# Altium footprint library Power_Embedded_Board_Library.PcbLib: 42 footprints (part 3 of 3)
Each footprint in its own frame and in the unit in brackets; x right, y up, seen from the top. Pads: shape width x height; smd on the part's side, far side on the other; paste and mask are expansions set on the pad; w line width, h text height; cw(c..) or ccw(c..) is an arc to the next point about the centre after c.
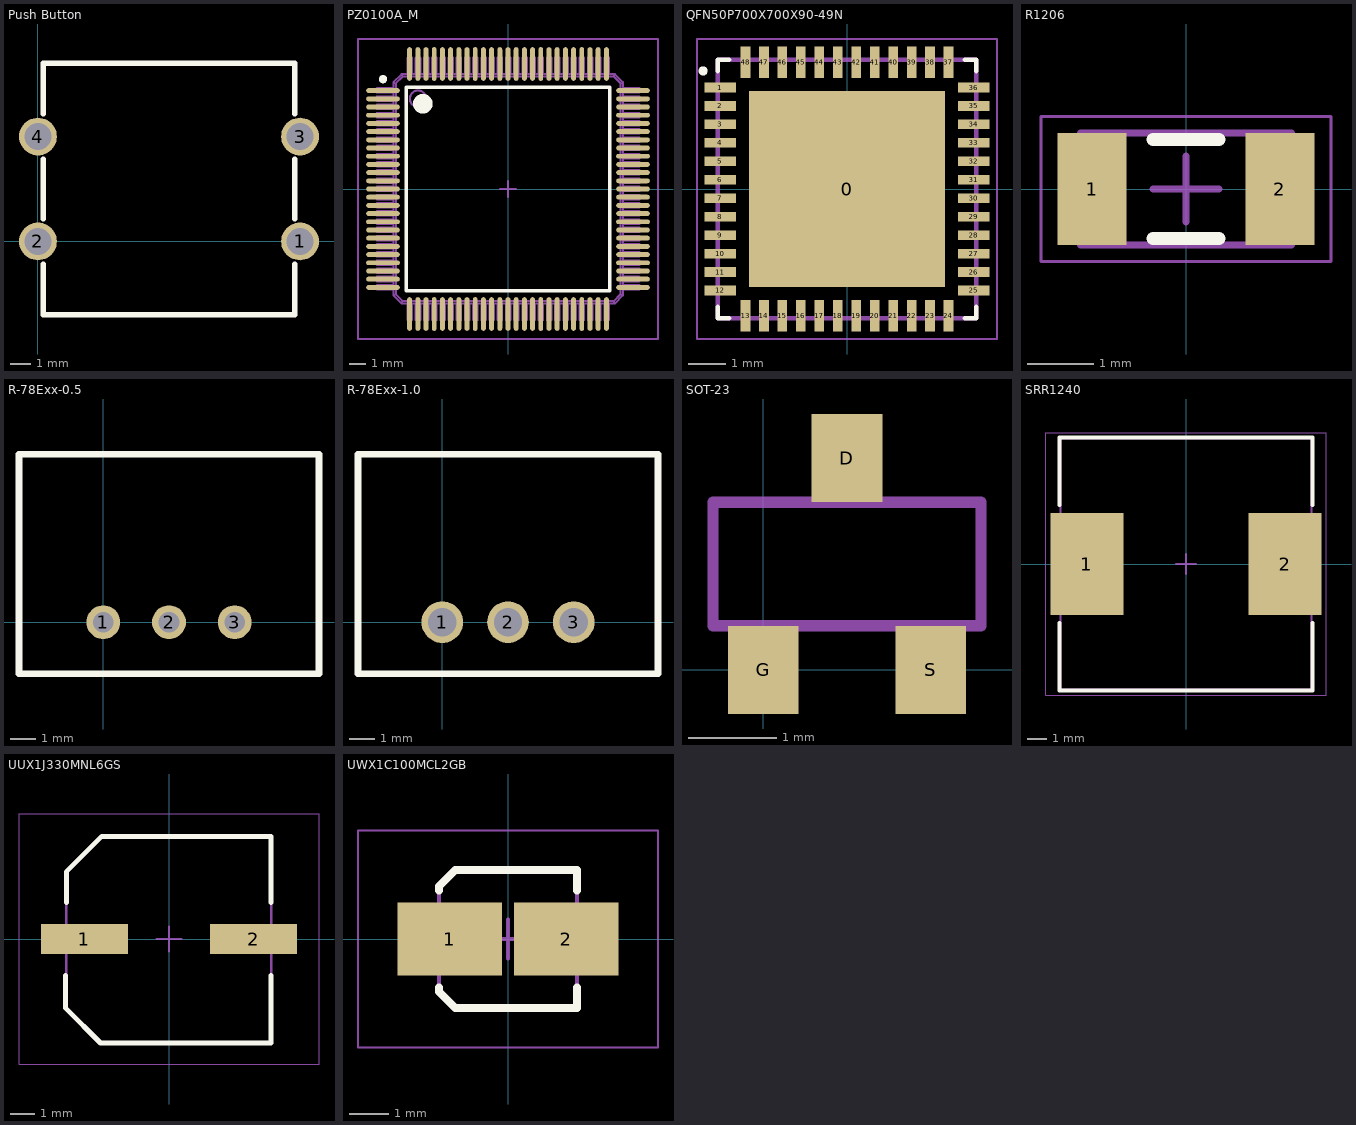
[diagram p2: the footprints below, top view; thin cyan lines are the x and y axes]

## Push Button [mm] "Tactile Switch SPST-NO Top Actuated Through Hole"
height 7.5
pads (4):
  round 1.808 hole 1.3: 1(12.5,0) 2(0,0) 3(12.5,5) 4(0,5)
Top Overlay:
  lines w0.254: 0.25,-1.075 0.25,-3.5 12.25,-3.5 12.25,-1.075 ; 0.25,1.075 0.25,3.925 ; 0.25,6.075 0.25,8.5 12.25,8.5 12.25,6.075 ; 12.25,1.075 12.25,3.925

## PZ0100A_M [mm] "SimpleLink Ultra-Low-Power 32-Bit ARM Cortex-M4F MCU With Precision ADC, 256KB Flash and 64KB RAM"
height 1.6
pads (100):
  oval 2.05x0.3 smd paste+0 mask+0.051: 1(-7.625,6) 2(-7.625,5.5) 3(-7.625,5) 4(-7.625,4.5) 5(-7.625,4) 6(-7.625,3.5) 7(-7.625,3) 8(-7.625,2.5) 9(-7.625,2) 10(-7.625,1.5) 11(-7.625,1) 12(-7.625,0.5) 13(-7.625,0) 14(-7.625,-0.5) 15(-7.625,-1) 16(-7.625,-1.5) 17(-7.625,-2) 18(-7.625,-2.5) 19(-7.625,-3) 20(-7.625,-3.5) 21(-7.625,-4) 22(-7.625,-4.5) 23(-7.625,-5) 24(-7.625,-5.5) 25(-7.625,-6) 51(7.625,-6) 52(7.625,-5.5) 53(7.625,-5) 54(7.625,-4.5) 55(7.625,-4) 56(7.625,-3.5) 57(7.625,-3) 58(7.625,-2.5) 59(7.625,-2) 60(7.625,-1.5) 61(7.625,-1) 62(7.625,-0.5) 63(7.625,0) 64(7.625,0.5) 65(7.625,1) 66(7.625,1.5) 67(7.625,2) 68(7.625,2.5) 69(7.625,3) 70(7.625,3.5) 71(7.625,4) 72(7.625,4.5) 73(7.625,5) 74(7.625,5.5) 75(7.625,6)
  oval 0.3x2.05 smd paste+0 mask+0.051: 26(-6,-7.625) 27(-5.5,-7.625) 28(-5,-7.625) 29(-4.5,-7.625) 30(-4,-7.625) 31(-3.5,-7.625) 32(-3,-7.625) 33(-2.5,-7.625) 34(-2,-7.625) 35(-1.5,-7.625) 36(-1,-7.625) 37(-0.5,-7.625) 38(0,-7.625) 39(0.5,-7.625) 40(1,-7.625) 41(1.5,-7.625) 42(2,-7.625) 43(2.5,-7.625) 44(3,-7.625) 45(3.5,-7.625) 46(4,-7.625) 47(4.5,-7.625) 48(5,-7.625) 49(5.5,-7.625) 50(6,-7.625) 76(6,7.625) 77(5.5,7.625) 78(5,7.625) 79(4.5,7.625) 80(4,7.625) 81(3.5,7.625) 82(3,7.625) 83(2.5,7.625) 84(2,7.625) 85(1.5,7.625) 86(1,7.625) 87(0.5,7.625) 88(0,7.625) 89(-0.5,7.625) 90(-1,7.625) 91(-1.5,7.625) 92(-2,7.625) 93(-2.5,7.625) 94(-3,7.625) 95(-3.5,7.625) 96(-4,7.625) 97(-4.5,7.625) 98(-5,7.625) 99(-5.5,7.625) 100(-6,7.625)
Top Overlay:
  circle w0.6: c-5.2,5.2 r0.3
  circle w0.25: c-7.625,6.7 r0.125
  lines w0.2: -6.2,-6.2 6.2,-6.2 6.2,6.2 -6.2,6.2 -6.2,-6.2
Mechanical 13:
  drawing of 1326 lines, arcs and shapes, not listed
  text ".Designator" at -1.8,-0.4 h1.27
Mechanical 15:
  lines w0.1: -0.5,0 0.5,0 ; 0,-0.5 0,0.5 ; -9.15,-9.15 9.15,-9.15 9.15,9.15 -9.15,9.15 -9.15,-9.15
3D body "PZ0100A.stp": height 1.5, standoff 0, extent -8.001,-8.001 8.021,8.021

## QFN50P700X700X90-49N [mm]
pads (49):
  rect 5.3x5.3 smd: 0(0,0)
  rect 0.86x0.26 smd: 1(-3.435,2.75) 2(-3.435,2.25) 3(-3.435,1.75) 4(-3.435,1.25) 5(-3.435,0.75) 6(-3.435,0.25) 7(-3.435,-0.25) 8(-3.435,-0.75) 9(-3.435,-1.25) 10(-3.435,-1.75) 11(-3.435,-2.25) 12(-3.435,-2.75) 25(3.435,-2.75) 26(3.435,-2.25) 27(3.435,-1.75) 28(3.435,-1.25) 29(3.435,-0.75) 30(3.435,-0.25) 31(3.435,0.25) 32(3.435,0.75) 33(3.435,1.25) 34(3.435,1.75) 35(3.435,2.25) 36(3.435,2.75)
  rect 0.26x0.86 smd: 13(-2.75,-3.435) 14(-2.25,-3.435) 15(-1.75,-3.435) 16(-1.25,-3.435) 17(-0.75,-3.435) 18(-0.25,-3.435) 19(0.25,-3.435) 20(0.75,-3.435) 21(1.25,-3.435) 22(1.75,-3.435) 23(2.25,-3.435) 24(2.75,-3.435) 37(2.75,3.435) 38(2.25,3.435) 39(1.75,3.435) 40(1.25,3.435) 41(0.75,3.435) 42(0.25,3.435) 43(-0.25,3.435) 44(-0.75,3.435) 45(-1.25,3.435) 46(-1.75,3.435) 47(-2.25,3.435) 48(-2.75,3.435)
Top Overlay:
  circle w0.05: c-3.9,3.2 r0.1
  circle w0.05: c-3.91,3.2 r0.058
  circle w0.05: c-3.89,3.2 r0.045
  circle w0.05: c-3.91,3.19 r0.014
  lines w0.127: -3.5,-3.2 -3.5,-3.5 -3.2,-3.5 ; -3.5,3.2 -3.5,3.5 -3.2,3.5 ; 3.2,-3.5 3.5,-3.5 3.5,-3.2 ; 3.2,3.5 3.5,3.5 3.5,3.2
Top Paste:
  region: 0.39,2.26 2.26,2.26 2.26,0.39 0.39,0.39
  region: -2.266,2.26 -0.39,2.26 -0.39,0.391 -2.266,0.391
  region: 0.391,-0.39 2.26,-0.39 2.26,-2.264 0.391,-2.264
  region: 0.39,2.26 2.26,2.26 2.26,0.39 0.39,0.39
  region: -2.265,-0.39 -0.39,-0.39 -0.39,-2.265 -2.265,-2.265
Mechanical 4:
  lines w0.127: -3.5,-3.5 -3.5,3.5 ; -3.5,-3.5 3.5,-3.5 ; -3.5,-3.5 -3.5,3.5 ; -3.5,-3.5 3.5,-3.5 ; -3.5,3.5 3.5,3.5 ; -3.5,3.5 3.5,3.5 ; 3.5,-3.5 3.5,3.5 ; 3.5,-3.5 3.5,3.5
Mechanical 16:
  lines w0.05: -4.065,-4.065 4.065,-4.065 4.065,4.065 -4.065,4.065 -4.065,-4.065

## R1206 [mm] "Chip Resistor, 2-Leads, Body 3.10x1.60mm, IPC Medium Density"
height 0.65
pads (2):
  rect 1.05x1.7 smd: 1(-1.425,0) 2(1.425,0)
Top Overlay:
  lines w0.2: -0.5,-0.75 0.5,-0.75 ; -0.5,0.75 0.5,0.75
Mechanical 13:
  lines w0.1: -1.6,-0.85 -1.6,0.85 1.6,0.85 1.6,-0.85 -1.6,-0.85
Mechanical 15:
  lines w0.05: -2.2,-1.1 -2.2,1.1 2.2,1.1 2.2,-1.1 -2.2,-1.1
  lines w0.1: -0.5,0 0.5,0 ; 0,-0.5 0,0.5
3D body: height 0.65, standoff 0, extent -1.2,-0.85 1.2,0.85
3D body: height 0.65, standoff 0, extent -1.6,-0.85 -1.2,0.85
3D body: height 0.65, standoff 0, extent 1.2,-0.85 1.6,0.85

## R-78Exx-0.5 [mm] "0.5A DC/DC Voltage Converter"
height 10.4
pads (3):
  round 1.308 hole 0.8: 1(0,0) 2(2.54,0) 3(5.08,0)
Top Overlay:
  lines w0.254: -3.26,-2 8.34,-2 8.34,6.5 -3.26,6.5 -3.26,-2

## R-78Exx-1.0 [mm] "1A DC/DC Voltage Converter"
height 10.4
pads (3):
  round 1.608 hole 1.1: 1(0,0) 2(2.54,0) 3(5.08,0)
Top Overlay:
  lines w0.254: -3.26,-2 -3.26,6.5 8.34,6.5 8.34,-2 -3.26,-2

## SOT-23 [mm]
height 1.4
pads (3):
  rect 0.8x1 smd: D(0.95,2.4) G(0,0) S(1.9,0)
Mechanical 13:
  lines w0.127: -0.57,0.5 2.47,0.5 2.47,1.9 -0.57,1.9 -0.57,0.5
3D body: height 1.15, standoff 0.05, extent -0.575,0.5 2.475,1.9

## SRR1240 [mm] "Molded Inductor, 2-Leads, Body 12.50x12.50mm, IPC Medium Density"
height 4.5
pads (2):
  rect 3.7x5.2 smd: 1(-5.05,0) 2(5.05,0)
Top Overlay:
  lines w0.2: -6.45,-3 -6.45,-6.45 6.45,-6.45 6.45,-3 ; -6.45,3 -6.45,6.45 6.45,6.45 6.45,3
Mechanical 13:
  lines w0.1: -6.4,-6.4 6.4,-6.4 6.4,6.4 -6.4,6.4 -6.4,-6.4
Mechanical 15:
  lines w0.05: -7.15,-6.7 7.15,-6.7 7.15,6.7 -7.15,6.7 -7.15,-6.7
  lines w0.1: -0.5,0 0.5,0 ; 0,-0.5 0,0.5
3D body: height 4.5, standoff 0, extent -6.4,-6.4 6.4,6.4

## UUX1J330MNL6GS [mm]
pads (2):
  rect 3.5x1.2 smd: 1(-3.4,0) 2(3.4,0)
Top Overlay:
  lines w0.2: -4.15,-1.475 -4.15,-2.775 -2.75,-4.175 4.1,-4.175 4.1,-1.475 ; -4.125,1.475 -4.125,2.7 -2.7,4.125 4.1,4.125 4.1,1.475
Mechanical 13:
  lines w0.1: -4.125,-2.825 -2.775,-4.175 4.1,-4.175 4.1,4.125 -2.725,4.125 -4.125,2.725 -4.125,-2.825
Mechanical 15:
  lines w0.05: -6.025,-5.025 -6.025,5.025 6.025,5.025 6.025,-5.025 -6.025,-5.025
  lines w0.1: -0.5,0 0.5,0 ; 0,-0.5 0,0.5
3D body: height 4.24, standoff 0, extent -4.15,-4.15 4.15,4.15
3D body: height 12.7, standoff 0, extent -4.15,-4.15 4.15,4.15

## UWX1C100MCL2GB [mm] "Aluminum Electrolytic Capacitor, Body 3.30x3.30x5.50mm, IPC Low Density"
height 5.5
pads (2):
  rect 2.65x1.85 smd: 1(-1.475,0) 2(1.475,0)
Top Overlay:
  lines w0.2: -1.75,-1.225 -1.75,-1.338 -1.338,-1.75 1.75,-1.75 1.75,-1.225 ; -1.75,1.225 -1.75,1.338 -1.338,1.75 1.75,1.75 1.75,1.225
Mechanical 13:
  lines w0.1: -1.75,-1.338 -1.75,1.338 -1.338,1.75 1.75,1.75 1.75,-1.75 -1.338,-1.75 -1.75,-1.338
Mechanical 15:
  lines w0.05: -3.8,-2.75 3.8,-2.75 3.8,2.75 -3.8,2.75 -3.8,-2.75
  lines w0.1: -0.5,0 0.5,0 ; 0,-0.5 0,0.5
3D body: height 5.5, standoff 0, extent -1.75,-1.75 1.75,1.75
3D body: height 1.84, standoff 0, extent -1.75,-1.75 1.75,1.75